# Altium footprint library TRIM_PT01-D125D-A103.PcbLib: 1 footprints
Each footprint in its own frame and in the unit in brackets; x right, y up, seen from the top. Pads: shape width x height; smd on the part's side, far side on the other; paste and mask are expansions set on the pad; w line width, h text height; cw(c..) or ccw(c..) is an arc to the next point about the centre after c.
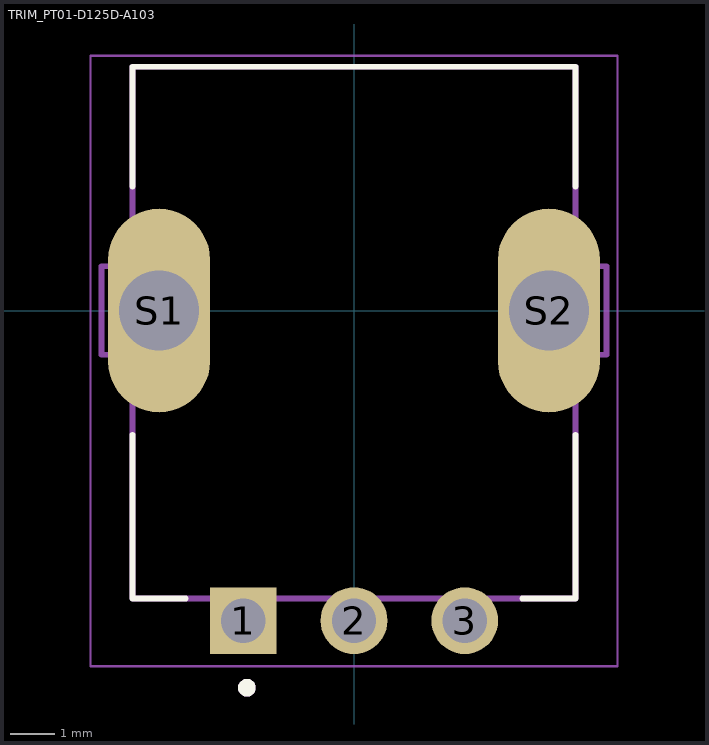
[diagram p0: the footprint, top view; thin cyan lines are the x and y axes]

## TRIM_PT01-D125D-A103 [mm]
height 26.8
pads (5):
  rect 1.508x1.508 / inner round 1.508 / far side rect 1.508x1.508 hole 1: 1(-2.5,-7)
  round 1.508 hole 1: 2(0,-7) 3(2.5,-7)
  oval 2.3x4.6 hole 1.8 square: S1(-4.4,0) S2(4.4,0)
Top Overlay:
  circle w0.2: c-2.418,-8.514 r0.1
  lines w0.127: -5,-2.8 -5,-6.5 -3.8,-6.5 ; -5,2.8 -5,5.5 5,5.5 5,2.8 ; 3.8,-6.5 5,-6.5 5,-2.8
Assembly Top:
  circle w0.2: c-2.418,-8.514 r0.1
  lines w0.127: -5.7,-1 -5.7,1 -5,1 -5,5.5 5,5.5 5,1 5.7,1 5.7,-1 5,-1 5,-6.5 -5,-6.5 -5,-1 -5.7,-1
Courtyard Top:
  lines w0.05: -5.95,-8.03 -5.95,5.75 5.95,5.75 5.95,-8.03 -5.95,-8.03
3D body "PT01-D125D-A103_Fixed.STEP": height 31.6, standoff -4.65, extent -5.636,-7.1 5.636,5.55